# Altium footprint library PCB - POWER INDUCTORS - WURTH WE-LQSH 2010.PcbLib: 1 footprints
Each footprint in its own frame and in the unit in brackets; x right, y up, seen from the top. Pads: shape width x height; smd on the part's side, far side on the other; paste and mask are expansions set on the pad; w line width, h text height; cw(c..) or ccw(c..) is an arc to the next point about the centre after c.
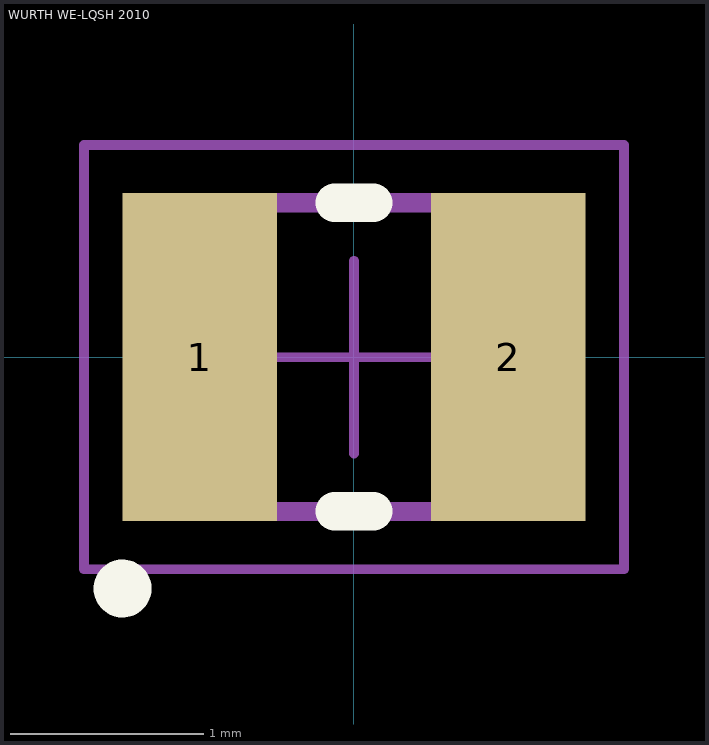
[diagram p0: the footprint, top view; thin cyan lines are the x and y axes]

## WURTH WE-LQSH 2010 [mm] "SMT Semi-Shielded High Saturation Power Inductor, body 2x1.6mm"
height 1
pads (2):
  rect 0.8x1.7 smd: 1(-0.8,0) 2(0.8,0)
Top Overlay:
  circle w0.15: c-1.2,-1.2 r0.075
  lines w0.2: -0.1,-0.8 0.1,-0.8 ; -0.1,0.8 0.1,0.8
Top Assembly:
  circle w0.1: c-0.7,-0.5 r0.15
  lines w0.05: -0.5,0 0.5,0 ; 0,-0.5 0,0.5
  lines w0.1: -1,-0.8 1,-0.8 1,0.8 -1,0.8 -1,-0.8
Top Component Outline:
  circle w0.1: c-0.7,-0.5 r0.15
  lines w0.1: -1,-0.8 1,-0.8 1,0.8 -1,0.8 -1,-0.8
Top Courtyard:
  lines w0.05: -1.4,-1.1 1.4,-1.1 1.4,1.1 -1.4,1.1 -1.4,-1.1
3D body "IndLQSH_2010.stp": height 0.99, standoff -0.01, extent -1,-0.8 1,0.8